# Altium integrated library Altera Cyclone III.IntLib: 225 symbols (part 4 of 46)
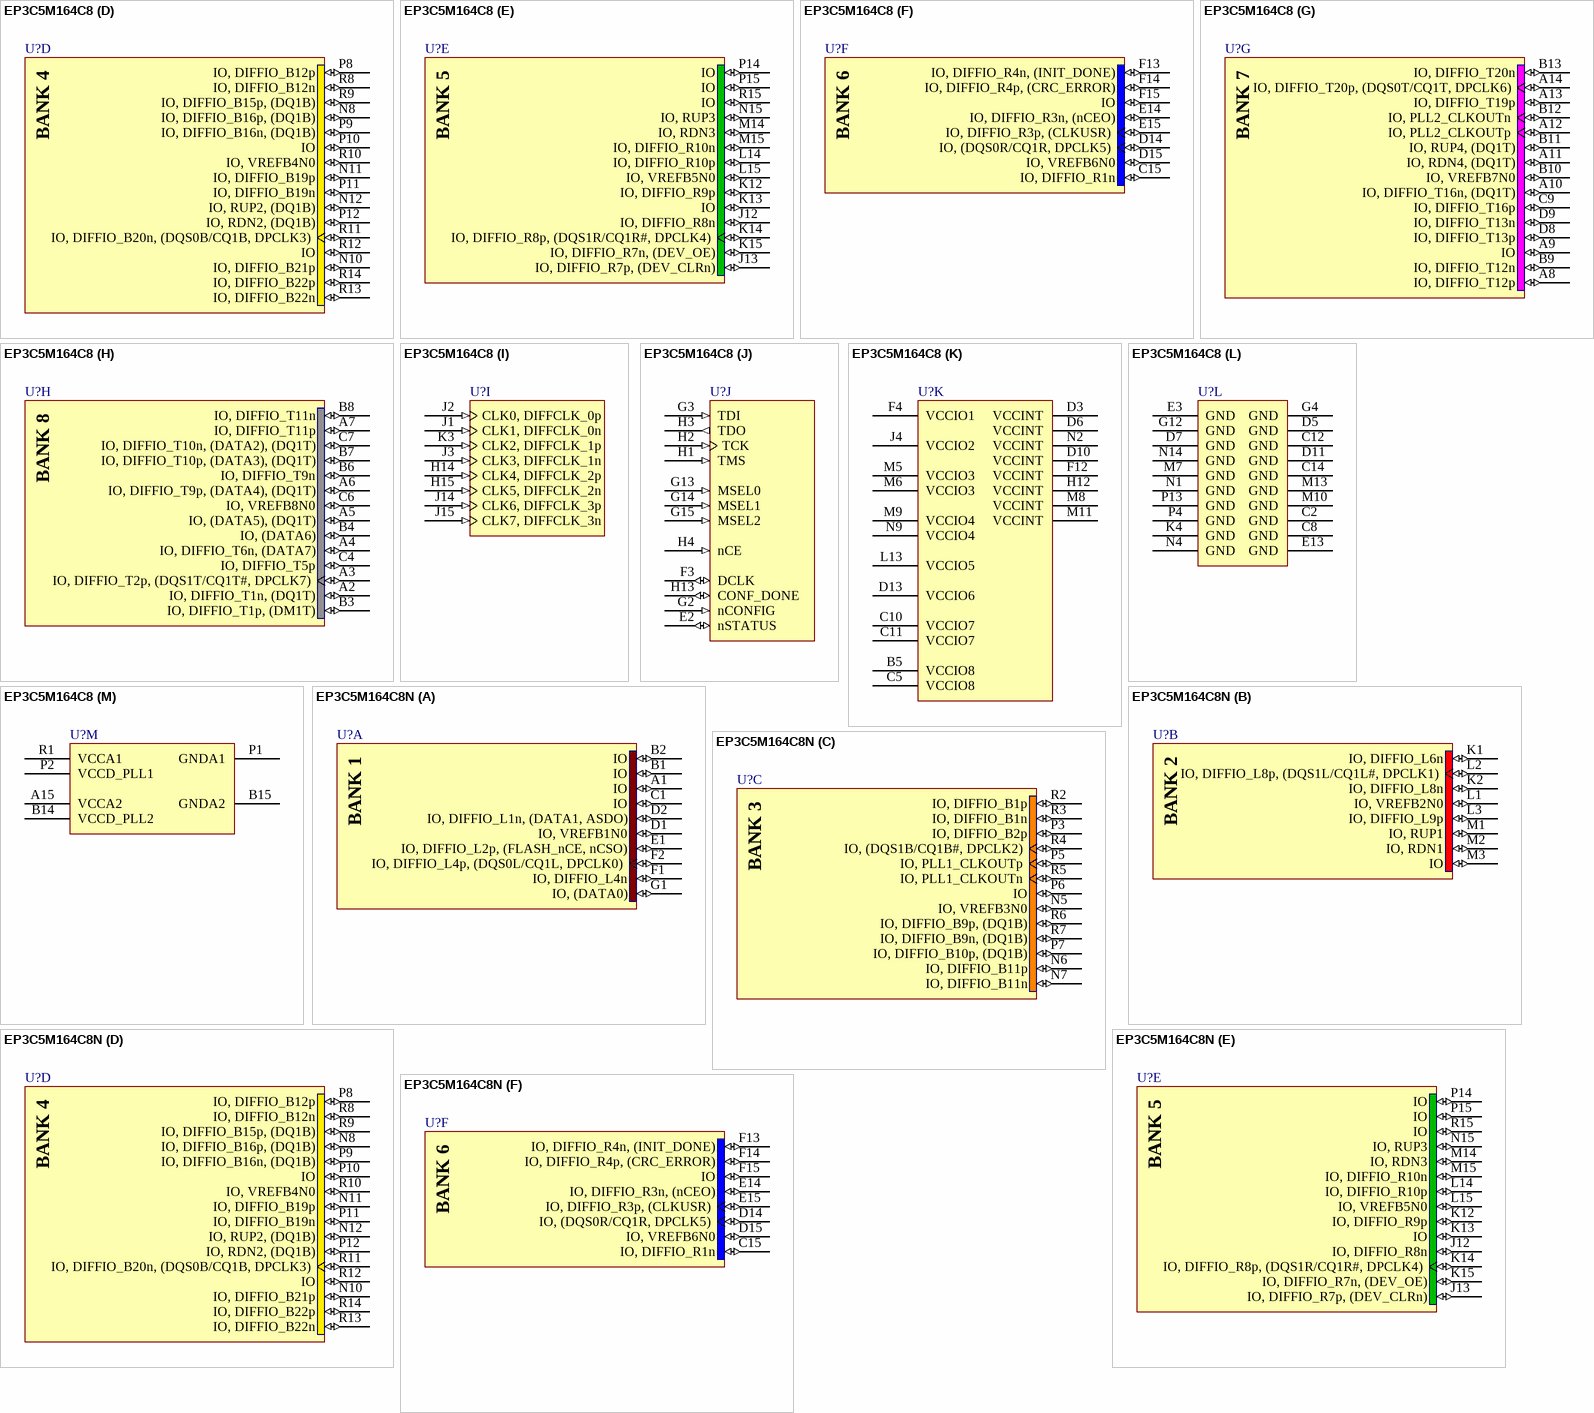
[diagram p500: symbols EP3C5M164C8 to EP3C5M164C8N]

## EP3C5M164C8
designator U?
Cyclone III Family FPGA, 106 I/O Pins, 4 PLLs, 164-Pin EQFP, Speed Grade 8, Commercial Grade; DatasheetVersion: ver2.0, May-2008; PackageVersion: ver15.1, May-2008; PackageReference: MBGA164; PackageDescription: 164-Pin Micro FineLine Ball Grid Array (MBGA) - Wire Bond; Code_JEDEC: MO-195-AE; ComponentLink1Description: Manufacturer URL; ComponentLink1URL: http://www.altera.com/; ComponentLink2Description: Handbook (7.86MB); ComponentLink2URL: http://www.altera.com/literature/hb/cyc3/cyclone3_handbook.pdf; ComponentLink3Description: Package Specification; ComponentLink3URL: http://www.altera.com/literature/ds/dspkg.pdf
footprint MBGA164 (BGA, 164-Leads, Body 8x8mm, Pitch 0.5mm)
part A pins: A1 IO (io), B1 IO (io), B2 IO (io), C1 IO (io), D1 IO, VREFB1N0 (io), D2 IO, DIFFIO_L1n, (DATA1, ASDO) (io), E1 IO, DIFFIO_L2p, (FLASH_nCE, nCSO) (io), F1 IO, DIFFIO_L4n (io), F2 IO, DIFFIO_L4p, (DQS0L/CQ1L, DPCLK0) (io), G1 IO, (DATA0) (io)
part B pins: K1 IO, DIFFIO_L6n (io), K2 IO, DIFFIO_L8n (io), L1 IO, VREFB2N0 (io), L2 IO, DIFFIO_L8p, (DQS1L/CQ1L#, DPCLK1) (io), L3 IO, DIFFIO_L9p (io), M1 IO, RUP1 (io), M2 IO, RDN1 (io), M3 IO (io)
part C pins: N5 IO, VREFB3N0 (io), N6 IO, DIFFIO_B11p (io), N7 IO, DIFFIO_B11n (io), P3 IO, DIFFIO_B2p (io), P5 IO, PLL1_CLKOUTp (io), P6 IO (io), P7 IO, DIFFIO_B10p, (DQ1B) (io), R2 IO, DIFFIO_B1p (io), R3 IO, DIFFIO_B1n (io), R4 IO, (DQS1B/CQ1B#, DPCLK2) (io), R5 IO, PLL1_CLKOUTn (io), R6 IO, DIFFIO_B9p, (DQ1B) (io), R7 IO, DIFFIO_B9n, (DQ1B) (io)
part D pins: N8 IO, DIFFIO_B16p, (DQ1B) (io), N10 IO, DIFFIO_B21p (io), N11 IO, DIFFIO_B19p (io), N12 IO, RUP2, (DQ1B) (io), P8 IO, DIFFIO_B12p (io), P9 IO, DIFFIO_B16n, (DQ1B) (io), P10 IO (io), P11 IO, DIFFIO_B19n (io), P12 IO, RDN2, (DQ1B) (io), R8 IO, DIFFIO_B12n (io), R9 IO, DIFFIO_B15p, (DQ1B) (io), R10 IO, VREFB4N0 (io), R11 IO, DIFFIO_B20n, (DQS0B/CQ1B, DPCLK3) (io), R12 IO (io), R13 IO, DIFFIO_B22n (io), R14 IO, DIFFIO_B22p (io)
part E pins: J12 IO, DIFFIO_R8n (io), J13 IO, DIFFIO_R7p, (DEV_CLRn) (io), K12 IO, DIFFIO_R9p (io), K13 IO (io), K14 IO, DIFFIO_R8p, (DQS1R/CQ1R#, DPCLK4) (io), K15 IO, DIFFIO_R7n, (DEV_OE) (io), L14 IO, DIFFIO_R10p (io), L15 IO, VREFB5N0 (io), M14 IO, RDN3 (io), M15 IO, DIFFIO_R10n (io), N15 IO, RUP3 (io), P14 IO (io), P15 IO (io), R15 IO (io)
part F pins: C15 IO, DIFFIO_R1n (io), D14 IO, (DQS0R/CQ1R, DPCLK5) (io), D15 IO, VREFB6N0 (io), E14 IO, DIFFIO_R3n, (nCEO) (io), E15 IO, DIFFIO_R3p, (CLKUSR) (io), F13 IO, DIFFIO_R4n, (INIT_DONE) (io), F14 IO, DIFFIO_R4p, (CRC_ERROR) (io), F15 IO (io)
part G pins: A8 IO, DIFFIO_T12p (io), A9 IO (io), A10 IO, DIFFIO_T16n, (DQ1T) (io), A11 IO, RDN4, (DQ1T) (io), A12 IO, PLL2_CLKOUTp (io), A13 IO, DIFFIO_T19p (io), A14 IO, DIFFIO_T20p, (DQS0T/CQ1T, DPCLK6) (io), B9 IO, DIFFIO_T12n (io), B10 IO, VREFB7N0 (io), B11 IO, RUP4, (DQ1T) (io), B12 IO, PLL2_CLKOUTn (io), B13 IO, DIFFIO_T20n (io), C9 IO, DIFFIO_T16p (io), D8 IO, DIFFIO_T13p (io), D9 IO, DIFFIO_T13n (io)
part H pins: A2 IO, DIFFIO_T1n, (DQ1T) (io), A3 IO, DIFFIO_T2p, (DQS1T/CQ1T#, DPCLK7) (io), A4 IO, DIFFIO_T6n, (DATA7) (io), A5 IO, (DATA5), (DQ1T) (io), A6 IO, DIFFIO_T9p, (DATA4), (DQ1T) (io), A7 IO, DIFFIO_T11p (io), B3 IO, DIFFIO_T1p, (DM1T) (io), B4 IO, (DATA6) (io), B6 IO, DIFFIO_T9n (io), B7 IO, DIFFIO_T10p, (DATA3), (DQ1T) (io), B8 IO, DIFFIO_T11n (io), C4 IO, DIFFIO_T5p (io), C6 IO, VREFB8N0 (io), C7 IO, DIFFIO_T10n, (DATA2), (DQ1T) (io)
part I pins: H14 CLK4, DIFFCLK_2p (in), H15 CLK5, DIFFCLK_2n (in), J1 CLK1, DIFFCLK_0n (in), J2 CLK0, DIFFCLK_0p (in), J3 CLK3, DIFFCLK_1n (in), J14 CLK6, DIFFCLK_3p (in), J15 CLK7, DIFFCLK_3n (in), K3 CLK2, DIFFCLK_1p (in)
part J pins: E2 nSTATUS (io), F3 DCLK (io), G2 nCONFIG (in), G3 TDI (in), G13 MSEL0 (in), G14 MSEL1 (in), G15 MSEL2 (in), H1 TMS (in), H2 TCK (in), H3 TDO (out), H4 nCE (in), H13 CONF_DONE (io)
part K pins: B5 VCCIO8 (power), C5 VCCIO8 (power), C10 VCCIO7 (power), C11 VCCIO7 (power), D3 VCCINT (power), D6 VCCINT (power), D10 VCCINT (power), D13 VCCIO6 (power), F4 VCCIO1 (power), F12 VCCINT (power), H12 VCCINT (power), J4 VCCIO2 (power), L13 VCCIO5 (power), M5 VCCIO3 (power), M6 VCCIO3 (power), M8 VCCINT (power), M9 VCCIO4 (power), M11 VCCINT (power), N2 VCCINT (power), N9 VCCIO4 (power)
part L pins: C2 GND (power), C8 GND (power), C12 GND (power), C14 GND (power), D5 GND (power), D7 GND (power), D11 GND (power), E3 GND (power), E13 GND (power), G4 GND (power), G12 GND (power), K4 GND (power), M7 GND (power), M10 GND (power), M13 GND (power), N1 GND (power), N4 GND (power), N14 GND (power), P4 GND (power), P13 GND (power)
part M pins: A15 VCCA2 (power), B14 VCCD_PLL2 (power), B15 GNDA2 (power), P1 GNDA1 (power), P2 VCCD_PLL1 (power), R1 VCCA1 (power)
part A text: BANK 1
part B text: BANK 2
part C text: BANK 3
part D text: BANK 4
part E text: BANK 5
part F text: BANK 6
part G text: BANK 7
part H text: BANK 8

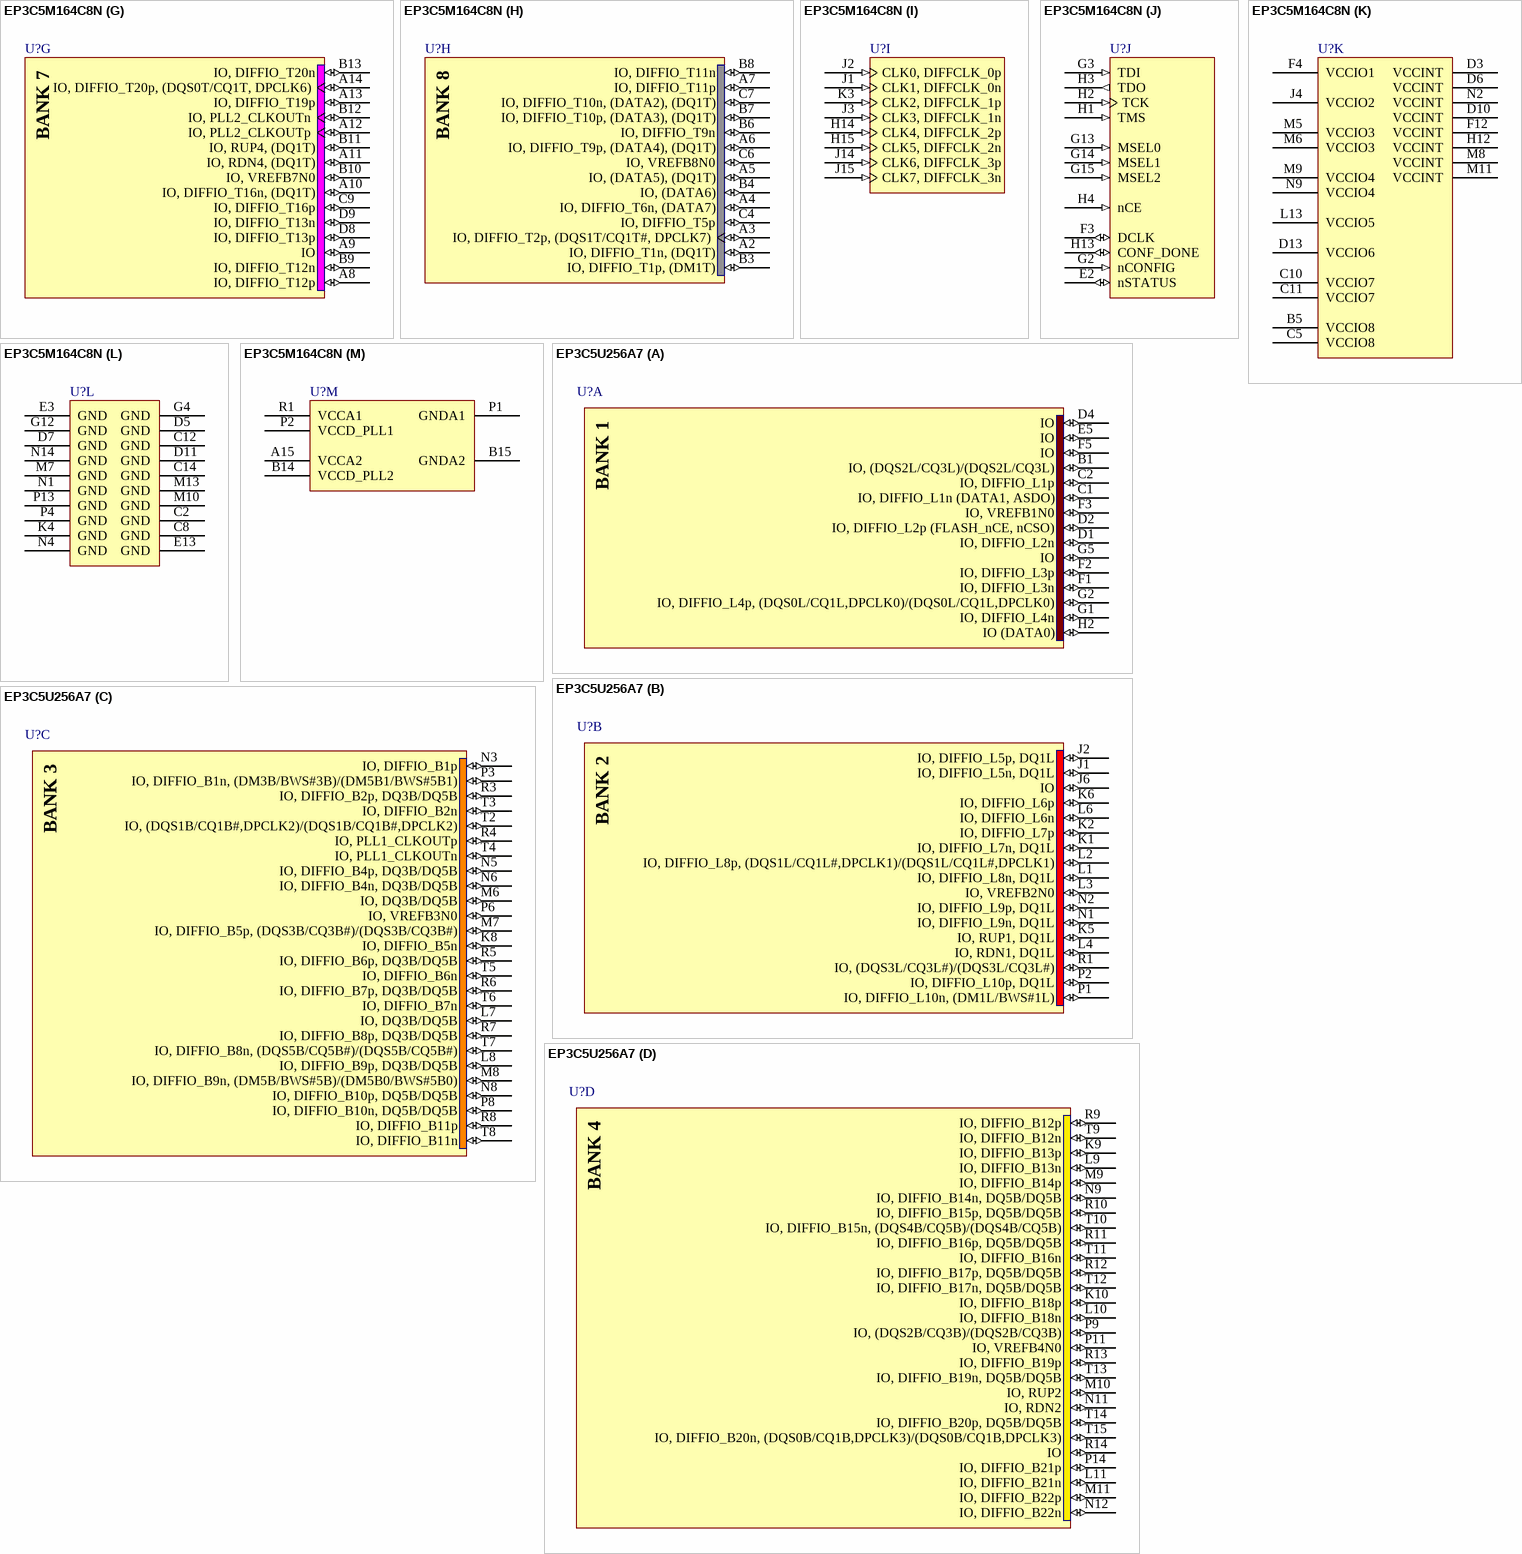
[diagram p19: symbols EP3C5M164C8N to EP3C5U256A7]